# EAGLE library part WE-PPTI_EE5 (library Eagle_WE-PPTI (rev24c))
WE-PPTI Push-Pull Transformers Characteristics Small size Surface mount Low profile Operating temp: -40°C to 125°C Functional or Reinforced Insulation Applications Isolated interface power supply for CAN, RS-485, RS-422, RS-232, SPI, I2C, lower-power LAN Industrial automation Process control Medical equipment PLC analog and digital I/O modules Isolated gate driver power supplies AC motor drives Uninterruptible power supplies (UPS) Solar inverters Polyphase energy meters Protection relays and IEDs <https://www.we-online.com/components/media/o715993v209%20Family-PPTI.jpg> Details see: www.we-online.com/en/components/products/WE-PPTI <www.we-online.com/catalog/WE-PPTI/?utm_source=eagle_model&utm_medium=description_link&utm_campaign=eisos_eagle> Created by Ella Wu 2023-02-20 2023 (C) Wurth Elektronik
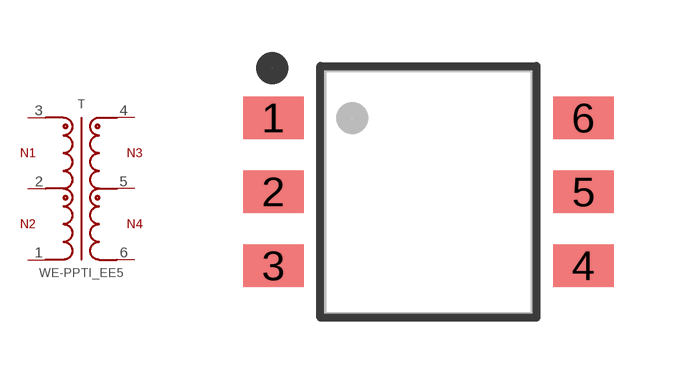
[diagram p7: symbol with the pads of WE-PPTI_EE5_L8.76W6.1H6.35; footprint WE-PPTI_EE5_L8.76W6.1H6.35]

Designator prefix T

## WE-PPTI_EE5_750031160_L8.76W6.1H6.35 (DATASHEET-URL: https://www.we-online.com/redexpert/spec/750031160?ae; FSWITCH: 500kHz; HEIGHT: 6.35mm; IOUT1: 350mA; L: 500uH; LENGTH: 8.76mm; MOUNT: SMT; N: 1:2.7; PART-NUMBER: 750031160; SIZE: EE5; TYPE-OF-INSULATION: Functional; VALUE: 750031160; VIN: 5 V (DC); VOLTAGE-TIME: 9Vus; VOUT1: 12V; VT: 1000 V(AC); WIDTH: 6.1mm)  [WE-PPTI_EE5_L8.76W6.1H6.35]
1  1  pas
2  2  pas
3  3  pas
4  4  pas
5  5  pas
6  6  pas

## Footprint WE-PPTI_EE5_L8.76W6.1H6.35 (pad centres in mm)
WE-PPTI Push-Pull Transformers Size: EE5, SMT, 6pins LXWXH=8.76X6.1X6.35mm
smd 1.52 x 1.07: 1 -3.875,1.85; 2 -3.875,0; 3 -3.875,-1.85; 4 3.875,-1.85; 5 3.875,0; 6 3.875,1.85